# Altium integrated library 电源芯片.IntLib: 3 symbols
Pins are listed as number, name and electrical type; pins without a type are passive.

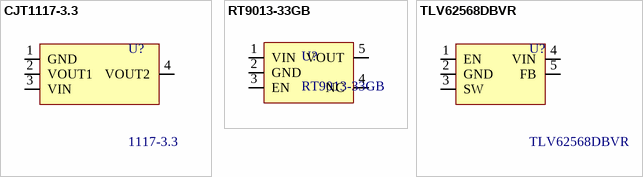
[diagram p0: symbols CJT1117-3.3 to TLV62568DBVR]

## CJT1117-3.3
designator U?, comment 1117-3.3
Manufacturer_Name: Advanced Monolithic Systems; Manufacturer_Part_Number: AMS1117-3.3; Geometry.Height: 1.8mm; Mouser Part Number: *; Mouser Price/Stock: *; Arrow Part Number: *; Arrow Price/Stock: *; Datasheet Link: http://www.advanced-monolithic.com/pdf/ds1117.pdf
footprint SOT-223
pins: 1 GND, 2 VOUT1, 3 VIN, 4 VOUT2

## RT9013-33GB
designator U?
footprint SOT-23-5
pins: 1 VIN, 2 GND, 3 EN, 4 NC, 5 VOUT

## TLV62568DBVR
designator U?
Manufacturer_Name: Texas Instruments; Geometry.Height: 1.45mm; Manufacturer_Part_Number: TLV62568DBVR; Mouser Part Number: 595-TLV62568DBVR; Mouser Price/Stock: https://www.mouser.co.uk/ProductDetail/Texas-Instruments/TLV62568DBVR?qs=0C8XhJW8e4pNapfrvkX1ow%3D%3D; Arrow Part Number: TLV62568DBVR; Arrow Price/Stock: https://www.arrow.com/en/products/tlv62568dbvr/texas-instruments; Datasheet Link: http://www.ti.com/lit/gpn/tlv62568
footprint SOT-23-5
pins: 1 EN, 2 GND, 3 SW, 4 VIN, 5 FB